# EAGLE library part C&K_SWITCH (library c&k switch 6 dip)
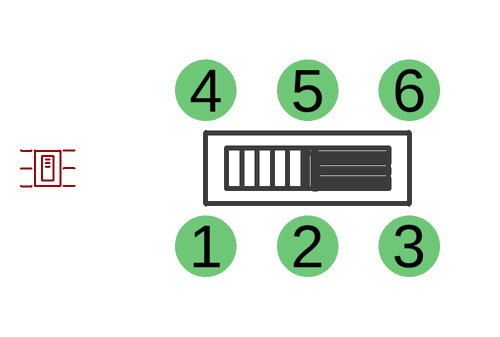
[diagram p0: symbol with the pads of C&K_HEX_DIP_SLIDE; footprint C&K_HEX_DIP_SLIDE]

Designator prefix -

## C&K_SWITCH  [C&K_HEX_DIP_SLIDE]
1  1
2  2
3  3
4  4
5  5
6  6

## Footprint C&K_HEX_DIP_SLIDE (pad centres in mm)
drill 1.016: 1 -2.54,-1.945; 2 0,-1.945; 3 2.54,-1.945; 4 -2.54,1.945; 5 0,1.945; 6 2.54,1.945